# Altium footprint library AMM-2742-T-R.PcbLib: 1 footprints
Each footprint in its own frame and in the unit in brackets; x right, y up, seen from the top. Pads: shape width x height; smd on the part's side, far side on the other; paste and mask are expansions set on the pad; w line width, h text height; cw(c..) or ccw(c..) is an arc to the next point about the centre after c.
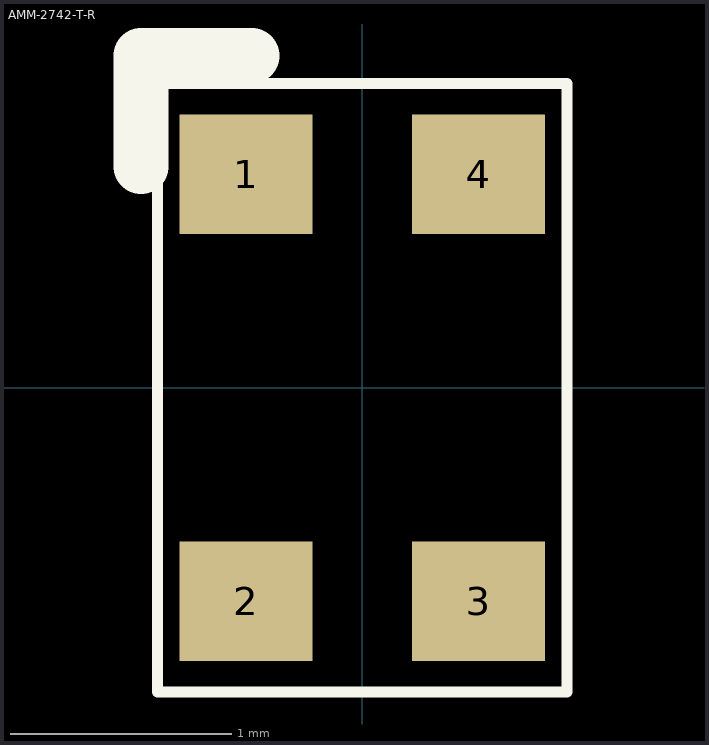
[diagram p0: the footprint, top view; thin cyan lines are the x and y axes]

## AMM-2742-T-R [mm]
pads (4):
  rect 0.6x0.54 smd: 1(-0.525,0.965) 2(-0.525,-0.965) 3(0.525,-0.965) 4(0.525,0.965)
Top Overlay:
  lines w0.05: -0.925,-1.375 0.925,-1.375 0.925,1.375 -0.925,1.375 -0.925,-1.375
  lines w0.25: -1,1 -1,1.5 -0.5,1.5